# EAGLE library part RESOLVED-ADJUSTABLE-VOLTAGE-REGULATOR_ (library cleanup_test01)
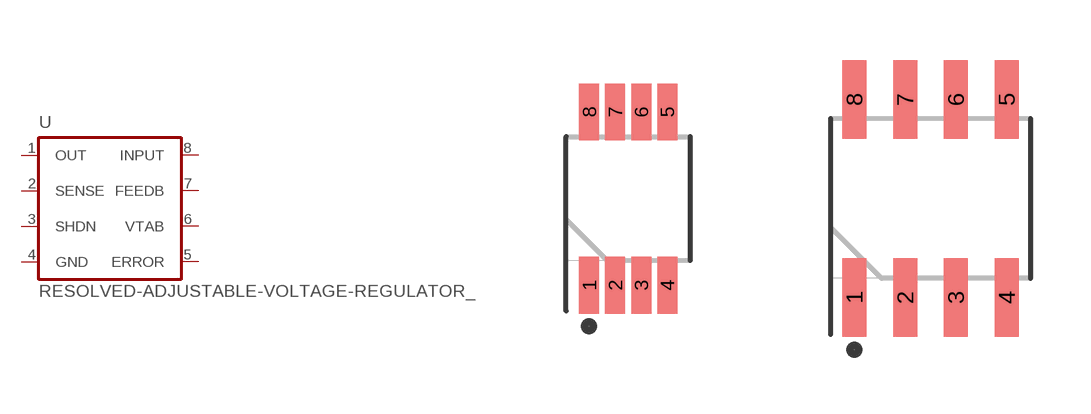
[diagram p2: symbol with the pads of SOP65P495X110-8L30HS; footprints SOP65P495X110-8L30HS, SOIC127P600X175-8L86HS]

Designator prefix -

## RESOLVED-ADJUSTABLE-VOLTAGE-REGULATOR_MSOP8  [SOP65P495X110-8L30HS]
1  OUT  out
2  SENSE  in
3  SHDN  in
4  GND  pwr
5  ERROR  out
6  VTAB  in
7  FEEDB  out
8  INPUT  pas

## RESOLVED-ADJUSTABLE-VOLTAGE-REGULATOR_SOIC8  [SOIC127P600X175-8L86HS]
Pads as for SOP65P495X110-8L30HS

## Footprint SOP65P495X110-8L30HS (pad centres in mm)
smd 0.5 x 1.42: 1 -0.975,-2.165; 2 -0.325,-2.165; 3 0.325,-2.165; 4 0.975,-2.165; 5 0.975,2.165; 6 0.325,2.165; 7 -0.325,2.165; 8 -0.975,2.165

## Footprint SOIC127P600X175-8L86HS (pad centres in mm)
smd 0.6 x 1.97: 1 -1.905,-2.475; 2 -0.635,-2.475; 3 0.635,-2.475; 4 1.905,-2.475; 5 1.905,2.475; 6 0.635,2.475; 7 -0.635,2.475; 8 -1.905,2.475